# EAGLE library part MINI-USB-SHIELD- (library MIDI router parts)
MINI USB-B Conector Source: www.cypressindustries.com
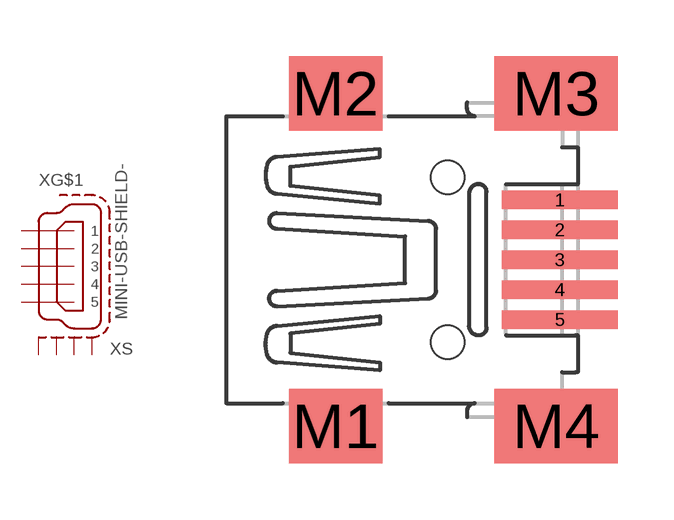
[diagram p10: symbol with the pads of MINI-USB-32005-201; footprint MINI-USB-32005-201]

Designator prefix X; gates G$1=MINI-USB-5 S=MINI-USB-SHIELD_4

## MINI-USB-SHIELD-32005-201 (OC_FARNELL: unknown; OC_NEWARK: unknown)  [MINI-USB-32005-201]
1  G$1:1  pas
2  G$1:2  pas
3  G$1:3  pas
4  G$1:4  pas
5  G$1:5  pas
M1  S:S1  pas
M2  S:S2  pas
M3  S:S3  pas
M4  S:S4  pas

## Footprint MINI-USB-32005-201 (pad centres in mm)
MINI USB-B R/A SMT W/ REAR Source: http://www.cypressindustries.com/pdf/32005-201.pdf
smd 3.1 x 0.5: 1 3,1.6; 2 3,0.8; 3 3,0; 4 3,-0.8; 5 3,-1.6
smd 2.5 x 2: M1 -3,-4.45; M2 -3,4.45
smd 3.3 x 2: M3 2.9,4.45; M4 2.9,-4.45
hole 0.9 at 0,2.2
hole 0.9 at 0,-2.2